# Altium footprint library clock.PcbLib: 26 footprints (part 2 of 2)
Each footprint in its own frame and in the unit in brackets; x right, y up, seen from the top. Pads: shape width x height; smd on the part's side, far side on the other; paste and mask are expansions set on the pad; w line width, h text height; cw(c..) or ccw(c..) is an arc to the next point about the centre after c.
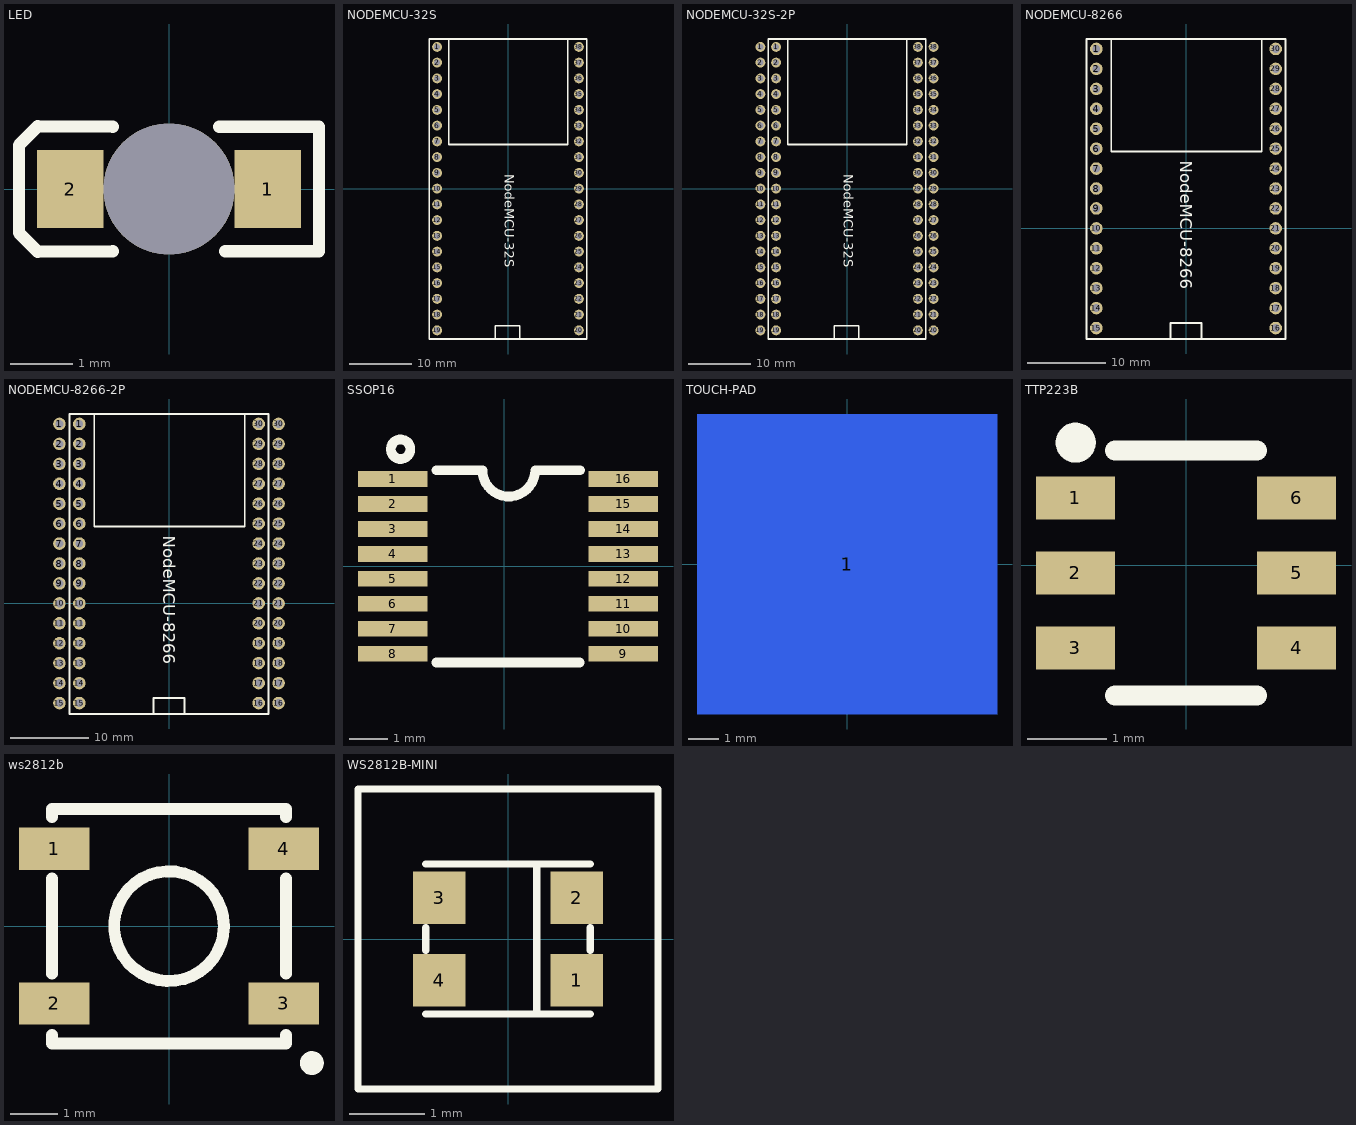
[diagram p1: the footprints below, top view; thin cyan lines are the x and y axes]

## LED [mm]
pads (3):
  rect 1.07x1.25 smd: 1(1.58,0) 2(-1.58,0)
  round 2.1 hole 2.1 unplated: ""(0,0)
Top Overlay:
  lines w0.2: -0.9,-1 -2.101,-1.001 -2.4,-0.701 -2.4,0.701 -2.101,1.001 -0.9,1 ; 0.8,1 2.4,1 2.4,-1 0.9,-1
Mechanical 15:
  lines w0.003: -0.026,0.599 0.025,0.65

## NODEMCU-32S [mm]
pads (38):
  round 1.6 hole 1: 1(-11.43,22.86) 2(-11.43,20.32) 3(-11.43,17.78) 4(-11.43,15.24) 5(-11.43,12.7) 6(-11.43,10.16) 7(-11.43,7.62) 8(-11.43,5.08) 9(-11.43,2.54) 10(-11.43,0) 11(-11.43,-2.54) 12(-11.43,-5.08) 13(-11.43,-7.62) 14(-11.43,-10.16) 15(-11.43,-12.7) 16(-11.43,-15.24) 17(-11.43,-17.78) 18(-11.43,-20.32) 19(-11.43,-22.86) 20(11.43,-22.86) 21(11.43,-20.32) 22(11.43,-17.78) 23(11.43,-15.24) 24(11.43,-12.7) 25(11.43,-10.16) 26(11.43,-7.62) 27(11.43,-5.08) 28(11.43,-2.54) 29(11.43,0) 30(11.43,2.54) 31(11.43,5.08) 32(11.43,7.62) 33(11.43,10.16) 34(11.43,12.7) 35(11.43,15.24) 36(11.43,17.78) 37(11.43,20.32) 38(11.43,22.86)
Top Overlay:
  lines w0.254: -9.525,24.003 -9.525,7.112 9.652,7.112 9.652,24.13 ; -2.032,-24.13 -2.032,-22.098 1.905,-22.098 1.905,-24.13 ; -12.7,-24.257 12.7,-24.257 12.7,24.13 -12.7,24.13 -12.7,-24.257
  text "NodeMCU-32S" at -0.508,2.286 h1.52

## NODEMCU-32S-2P [mm]
pads (76):
  round 1.6 hole 1: 1(-13.97,22.86) 1(-11.43,22.86) 2(-13.97,20.32) 2(-11.43,20.32) 3(-13.97,17.78) 3(-11.43,17.78) 4(-13.97,15.24) 4(-11.43,15.24) 5(-13.97,12.7) 5(-11.43,12.7) 6(-13.97,10.16) 6(-11.43,10.16) 7(-13.97,7.62) 7(-11.43,7.62) 8(-13.97,5.08) 8(-11.43,5.08) 9(-13.97,2.54) 9(-11.43,2.54) 10(-13.97,0) 10(-11.43,0) 11(-13.97,-2.54) 11(-11.43,-2.54) 12(-13.97,-5.08) 12(-11.43,-5.08) 13(-13.97,-7.62) 13(-11.43,-7.62) 14(-13.97,-10.16) 14(-11.43,-10.16) 15(-13.97,-12.7) 15(-11.43,-12.7) 16(-13.97,-15.24) 16(-11.43,-15.24) 17(-13.97,-17.78) 17(-11.43,-17.78) 18(-13.97,-20.32) 18(-11.43,-20.32) 19(-13.97,-22.86) 19(-11.43,-22.86) 20(11.43,-22.86) 20(13.97,-22.86) 21(11.43,-20.32) 21(13.97,-20.32) 22(11.43,-17.78) 22(13.97,-17.78) 23(11.43,-15.24) 23(13.97,-15.24) 24(11.43,-12.7) 24(13.97,-12.7) 25(11.43,-10.16) 25(13.97,-10.16) 26(11.43,-7.62) 26(13.97,-7.62) 27(11.43,-5.08) 27(13.97,-5.08) 28(11.43,-2.54) 28(13.97,-2.54) 29(11.43,0) 29(13.97,0) 30(11.43,2.54) 30(13.97,2.54) 31(11.43,5.08) 31(13.97,5.08) 32(11.43,7.62) 32(13.97,7.62) 33(11.43,10.16) 33(13.97,10.16) 34(11.43,12.7) 34(13.97,12.7) 35(11.43,15.24) 35(13.97,15.24) 36(11.43,17.78) 36(13.97,17.78) 37(11.43,20.32) 37(13.97,20.32) 38(11.43,22.86) 38(13.97,22.86)
Top Overlay:
  lines w0.254: -9.525,24.003 -9.525,7.112 9.652,7.112 9.652,24.13 ; -2.032,-24.13 -2.032,-22.098 1.905,-22.098 1.905,-24.13 ; -12.7,-24.257 -12.7,24.13 12.7,24.13 12.7,-24.257 -12.7,-24.257
  text "NodeMCU-32S" at -0.508,2.286 h1.52

## NODEMCU-8266 [mm]
pads (30):
  round 1.6 hole 1: 1(-11.43,22.86) 2(-11.43,20.32) 3(-11.43,17.78) 4(-11.43,15.24) 5(-11.43,12.7) 6(-11.43,10.16) 7(-11.43,7.62) 8(-11.43,5.08) 9(-11.43,2.54) 10(-11.43,0) 11(-11.43,-2.54) 12(-11.43,-5.08) 13(-11.43,-7.62) 14(-11.43,-10.16) 15(-11.43,-12.7) 16(11.43,-12.7) 17(11.43,-10.16) 18(11.43,-7.62) 19(11.43,-5.08) 20(11.43,-2.54) 21(11.43,0) 22(11.43,2.54) 23(11.43,5.08) 24(11.43,7.62) 25(11.43,10.16) 26(11.43,12.7) 27(11.43,15.24) 28(11.43,17.78) 29(11.43,20.32) 30(11.43,22.86)
Top Overlay:
  lines w0.254: -9.525,24.003 -9.525,9.779 9.652,9.779 9.652,24.13 ; -1.968,-14.097 -1.968,-12.065 1.968,-12.065 1.968,-14.097 ; -12.7,-14.097 12.7,-14.097 12.7,24.13 -12.7,24.13 -12.7,-14.097
  text "NodeMCU-8266" at -0.762,8.636 h1.52

## NODEMCU-8266-2P [mm]
pads (60):
  round 1.6 hole 1: 1(-13.97,22.86) 1(-11.43,22.86) 2(-13.97,20.32) 2(-11.43,20.32) 3(-13.97,17.78) 3(-11.43,17.78) 4(-13.97,15.24) 4(-11.43,15.24) 5(-13.97,12.7) 5(-11.43,12.7) 6(-13.97,10.16) 6(-11.43,10.16) 7(-13.97,7.62) 7(-11.43,7.62) 8(-13.97,5.08) 8(-11.43,5.08) 9(-13.97,2.54) 9(-11.43,2.54) 10(-13.97,0) 10(-11.43,0) 11(-13.97,-2.54) 11(-11.43,-2.54) 12(-13.97,-5.08) 12(-11.43,-5.08) 13(-13.97,-7.62) 13(-11.43,-7.62) 14(-13.97,-10.16) 14(-11.43,-10.16) 15(-13.97,-12.7) 15(-11.43,-12.7) 16(11.43,-12.7) 16(13.97,-12.7) 17(11.43,-10.16) 17(13.97,-10.16) 18(11.43,-7.62) 18(13.97,-7.62) 19(11.43,-5.08) 19(13.97,-5.08) 20(11.43,-2.54) 20(13.97,-2.54) 21(11.43,0) 21(13.97,0) 22(11.43,2.54) 22(13.97,2.54) 23(11.43,5.08) 23(13.97,5.08) 24(11.43,7.62) 24(13.97,7.62) 25(11.43,10.16) 25(13.97,10.16) 26(11.43,12.7) 26(13.97,12.7) 27(11.43,15.24) 27(13.97,15.24) 28(11.43,17.78) 28(13.97,17.78) 29(11.43,20.32) 29(13.97,20.32) 30(11.43,22.86) 30(13.97,22.86)
Top Overlay:
  lines w0.254: -9.525,24.003 -9.525,9.779 9.652,9.779 9.652,24.13 ; -1.968,-14.097 -1.968,-12.065 1.968,-12.065 1.968,-14.097 ; -12.7,-14.097 12.7,-14.097 12.7,24.13 -12.7,24.13 -12.7,-14.097
  text "NodeMCU-8266" at -0.762,8.636 h1.52

## SSOP16 [mil]
pads (16):
  rect 71x16 smd: 1(-114.5,89.5) 2(-114.5,63.91) 3(-114.5,38.32) 4(-114.5,12.73) 5(-114.5,-12.86) 6(-114.5,-38.45) 7(-114.5,-64.04) 8(-114.5,-89.63) 9(121.72,-89.63) 10(121.72,-64.04) 11(121.72,-38.45) 12(121.72,-12.86) 13(121.72,12.73) 14(121.72,38.32) 15(121.72,63.91) 16(121.72,89.5)
Top Overlay:
  circle w10: c-106.39,120 r10
  lines w10: -69.95,-98.42 77.17,-98.42 ; -69.62,98.42 -22.6,98.54 ccw(c4.4,98.54) 31.4,98.54 77.63,98.42

## TOUCH-PAD [mm]
pads (1):
  rect 10x10 smd far side: 1(0,0)

## TTP223B [mm]
pads (6):
  rect 1x0.55 smd: 1(-1.4,0.849) 2(-1.4,-0.101) 3(-1.4,-1.051) 4(1.4,-1.051) 5(1.4,-0.101) 6(1.4,0.849)
Top Overlay:
  circle w0.254: c-1.397,1.55 r0.127
  lines w0.254: -0.9,-1.651 0.9,-1.651 ; -0.9,1.449 0.9,1.449

## ws2812b [mm]
height 1.57
pads (4):
  rect 1.5x0.9 smd: 1(-2.45,1.65) 2(-2.45,-1.65) 3(2.45,-1.65) 4(2.45,1.65)
Top Overlay:
  circle w0.254: c3.048,-2.921 r0.127
  circle w0.254: c0,0 r1.171
  lines w0.254: -2.5,-2.326 -2.5,-2.5 2.5,-2.5 2.5,-2.326 ; -2.5,-1.016 -2.5,1.016 ; -2.5,2.326 -2.5,2.5 2.5,2.5 2.5,2.326 ; 2.5,-1.016 2.5,1.016

## WS2812B-MINI [mm]
pads (4):
  rect 0.7x0.7 smd: 1(0.915,-0.55) 2(0.915,0.55) 3(-0.915,0.55) 4(-0.915,-0.55)
Top Overlay:
  lines w0.1: -1.1,-1 1.1,-1 ; -1.1,-0.15 -1.1,0.15 ; -1.1,1 1.1,1 ; 0.381,-1 0.381,1 ; 1.1,-0.15 1.1,0.15 ; -2,-2 2,-2 2,2 -2,2 -2,-2